# Altium footprint library BMS_Components.PcbLib: 13 footprints
Each footprint in its own frame and in the unit in brackets; x right, y up, seen from the top. Pads: shape width x height; smd on the part's side, far side on the other; paste and mask are expansions set on the pad; w line width, h text height; cw(c..) or ccw(c..) is an arc to the next point about the centre after c.
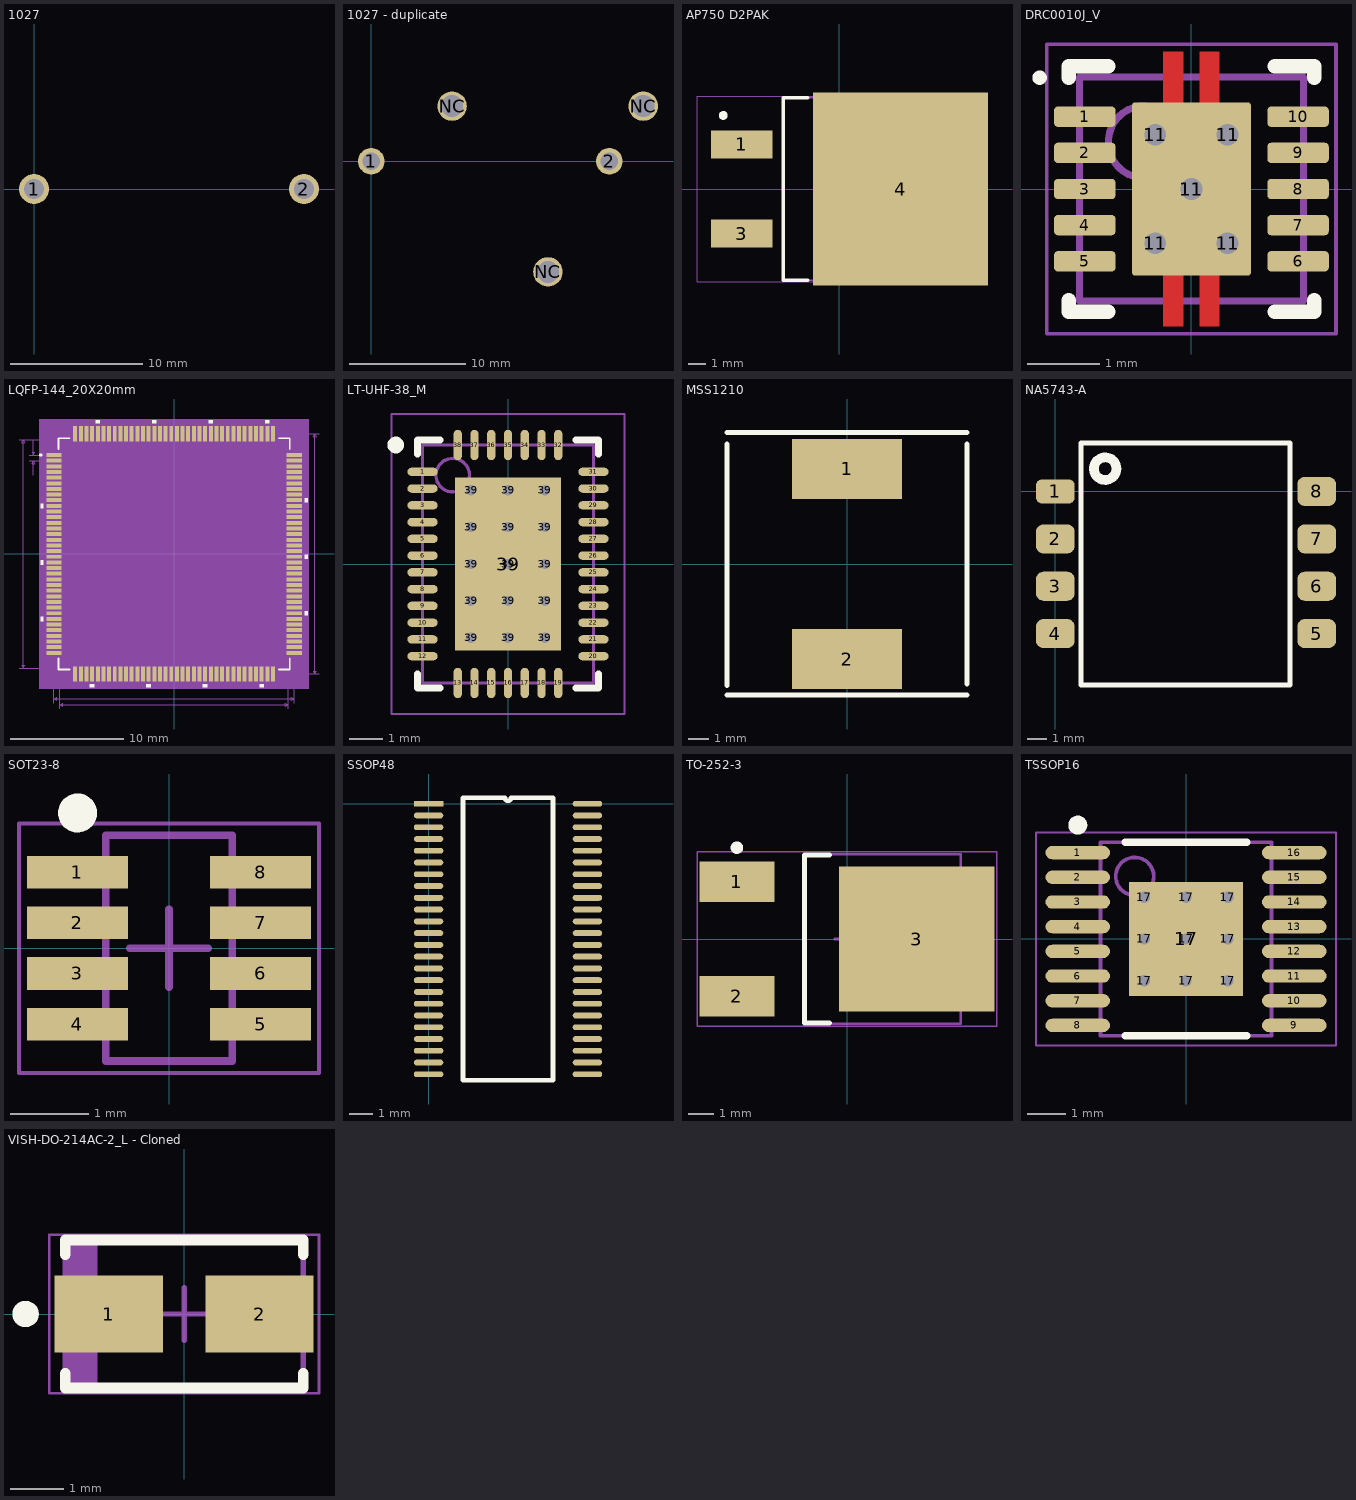
[diagram p0: the footprints below, top view; thin cyan lines are the x and y axes]

## 1027 [mil] "Keystone Cell holder, 23mm diameter"
pads (2):
  round 90 hole 60: 1(0,0) 2(807,0)
3D body "keystone-PN1027.STEP": height 451.88, standoff -179, extent -72.5,-546.46 1146.5,546.44

## 1027 - duplicate [mil] "Keystone Cell holder, 23mm diameter"
pads (5):
  round 90 hole 60: 1(0,0) 2(807,0)
  round 100 hole 75: NC(274,187) NC(599,-375) NC(922,187)
3D body "keystone-PN1027.STEP": height 451.88, standoff -179, extent -72.5,-546.46 1146.5,546.44

## AP750 D2PAK [mm] "D2-PAK for AP750 Resistor"
height 4.6
pads (3):
  rect 3.5x1.6 smd: 1(-5.55,2.54) 3(-5.55,-2.54)
  rect 10x11 smd: 4(3.5,0)
Top Overlay:
  circle w0.25: c-6.604,4.191 r0.125
  lines w0.2: -1.778,-5.2 -3.175,-5.2 -3.175,5.2 -1.778,5.2
Mechanical 13:
  lines w0.1: -3.175,-5.2 6.35,-5.2 6.35,5.207 -3.175,5.207 -3.175,-5.2
Mechanical 15:
  lines w0.05: -8.1,-5.3 8.1,-5.3 8.1,5.3 -8.1,5.3 -8.1,-5.3
  lines w0.1: -0.5,0 0.5,0 ; 0,-0.5 0,0.5
3D body: height 4.6, standoff 0, extent -3,-5.2 6.35,5.2

## DRC0010J_V [mm] "SON, 10-Leads, Body 3x3mm, Pitch 0.5mm, Thermal Pad 2.4x1.65mm, TI Recommended"
height 1
pads (16):
  rrect36% 0.85x0.28 smd paste-0.025 mask+0.07: 1(-1.475,1) 2(-1.475,0.5) 3(-1.475,0) 4(-1.475,-0.5) 5(-1.475,-1) 6(1.475,-1) 7(1.475,-0.5) 8(1.475,0) 9(1.475,0.5) 10(1.475,1)
  round 0.5 hole 0.3: 11(-0.5,-0.75) 11(-0.5,0.75) 11(0,0) 11(0.5,-0.75) 11(0.5,0.75)
  rrect6% 1.65x2.4 smd paste-0.825 mask+0.07: 11(0,0)
Top Layer:
  rectangle: -0.39,1.041 -0.11,1.9
  region: 0.39,1.9 0.11,1.9 0.11,1.067 0.39,1.067
  region: 0.39,-1.067 0.11,-1.067 0.11,-1.9 0.39,-1.9
  rectangle: -0.39,-1.9 -0.11,-1.016
Top Overlay:
  circle w0.1: c-2.1,1.54 r0.05
  lines w0.2: -1.7,-1.54 -1.7,-1.7 -1.15,-1.7 ; -1.7,1.54 -1.7,1.7 -1.15,1.7 ; 1.15,-1.7 1.7,-1.7 1.7,-1.54 ; 1.15,1.7 1.7,1.7 1.7,1.54
Top Paste:
  rectangle: -0.79,0.11 -0.11,1.16
  rectangle: -0.38,1.38 -0.12,1.88
  region: 0.38,1.88 0.12,1.88 0.12,1.38 0.38,1.38
  region: 0.38,-1.38 0.12,-1.38 0.12,-1.88 0.38,-1.88
  rectangle: -0.38,-1.88 -0.12,-1.38
  region: 0.79,1.16 0.11,1.16 0.11,0.11 0.79,0.11
  region: 0.79,-0.11 0.11,-0.11 0.11,-1.16 0.79,-1.16
  rectangle: -0.79,-1.16 -0.11,-0.11
Mechanical 1:
  text ".Designator" at -1.397,-1.016 h0.76
Mechanical 13:
  circle w0.1: c-0.65,0.65 r0.5
  lines w0.1: -1.55,-1.55 -1.55,1.55 1.55,1.55 1.55,-1.55 -1.55,-1.55
Mechanical 15:
  lines w0.05: -2,-2 -2,2 2,2 2,-2 -2,-2
3D body: height 1, standoff 0, extent -1.55,-1.55 1.55,1.55

## LQFP-144_20X20mm [mm]
pads (144):
  rect 1.35x0.35 smd paste+0 mask+0: 1(-10.625,8.75) 2(-10.625,8.25) 3(-10.625,7.75) 4(-10.625,7.25) 5(-10.625,6.75) 6(-10.625,6.25) 7(-10.625,5.75) 8(-10.625,5.25) 9(-10.625,4.75) 10(-10.625,4.25) 11(-10.625,3.75) 12(-10.625,3.25) 13(-10.625,2.75) 14(-10.625,2.25) 15(-10.625,1.75) 16(-10.625,1.25) 17(-10.625,0.75) 18(-10.625,0.25) 19(-10.625,-0.25) 20(-10.625,-0.75) 21(-10.625,-1.25) 22(-10.625,-1.75) 23(-10.625,-2.25) 24(-10.625,-2.75) 25(-10.625,-3.25) 26(-10.625,-3.75) 27(-10.625,-4.25) 28(-10.625,-4.75) 29(-10.625,-5.25) 30(-10.625,-5.75) 31(-10.625,-6.25) 32(-10.625,-6.75) 33(-10.625,-7.25) 34(-10.625,-7.75) 35(-10.625,-8.25) 36(-10.625,-8.75) 73(10.625,-8.75) 74(10.625,-8.25) 75(10.625,-7.75) 76(10.625,-7.25) 77(10.625,-6.75) 78(10.625,-6.25) 79(10.625,-5.75) 80(10.625,-5.25) 81(10.625,-4.75) 82(10.625,-4.25) 83(10.625,-3.75) 84(10.625,-3.25) 85(10.625,-2.75) 86(10.625,-2.25) 87(10.625,-1.75) 88(10.625,-1.25) 89(10.625,-0.75) 90(10.625,-0.25) 91(10.625,0.25) 92(10.625,0.75) 93(10.625,1.25) 94(10.625,1.75) 95(10.625,2.25) 96(10.625,2.75) 97(10.625,3.25) 98(10.625,3.75) 99(10.625,4.25) 100(10.625,4.75) 101(10.625,5.25) 102(10.625,5.75) 103(10.625,6.25) 104(10.625,6.75) 105(10.625,7.25) 106(10.625,7.75) 107(10.625,8.25) 108(10.625,8.75)
  rect 0.35x1.35 smd paste+0 mask+0: 37(-8.75,-10.625) 38(-8.25,-10.625) 39(-7.75,-10.625) 40(-7.25,-10.625) 41(-6.75,-10.625) 42(-6.25,-10.625) 43(-5.75,-10.625) 44(-5.25,-10.625) 45(-4.75,-10.625) 46(-4.25,-10.625) 47(-3.75,-10.625) 48(-3.25,-10.625) 49(-2.75,-10.625) 50(-2.25,-10.625) 51(-1.75,-10.625) 52(-1.25,-10.625) 53(-0.75,-10.625) 54(-0.25,-10.625) 55(0.25,-10.625) 56(0.75,-10.625) 57(1.25,-10.625) 58(1.75,-10.625) 59(2.25,-10.625) 60(2.75,-10.625) 61(3.25,-10.625) 62(3.75,-10.625) 63(4.25,-10.625) 64(4.75,-10.625) 65(5.25,-10.625) 66(5.75,-10.625) 67(6.25,-10.625) 68(6.75,-10.625) 69(7.25,-10.625) 70(7.75,-10.625) 71(8.25,-10.625) 72(8.75,-10.625) 109(8.75,10.625) 110(8.25,10.625) 111(7.75,10.625) 112(7.25,10.625) 113(6.75,10.625) 114(6.25,10.625) 115(5.75,10.625) 116(5.25,10.625) 117(4.75,10.625) 118(4.25,10.625) 119(3.75,10.625) 120(3.25,10.625) 121(2.75,10.625) 122(2.25,10.625) 123(1.75,10.625) 124(1.25,10.625) 125(0.75,10.625) 126(0.25,10.625) 127(-0.25,10.625) 128(-0.75,10.625) 129(-1.25,10.625) 130(-1.75,10.625) 131(-2.25,10.625) 132(-2.75,10.625) 133(-3.25,10.625) 134(-3.75,10.625) 135(-4.25,10.625) 136(-4.75,10.625) 137(-5.25,10.625) 138(-5.75,10.625) 139(-6.25,10.625) 140(-6.75,10.625) 141(-7.25,10.625) 142(-7.75,10.625) 143(-8.25,10.625) 144(-8.75,10.625)
Top Overlay:
  circle w0.152: c-11.804,8.75 r0.076
  region: -6.559,11.554 -6.94,11.554 -6.94,11.808 -6.559,11.808
  region: -1.559,11.554 -1.94,11.554 -1.94,11.808 -1.559,11.808
  region: 3.441,11.554 3.06,11.554 3.06,11.808 3.441,11.808
  region: 8.441,11.554 8.06,11.554 8.06,11.808 8.441,11.808
  region: 11.554,4.941 11.808,4.941 11.808,4.56 11.554,4.56
  region: 11.554,-0.059 11.808,-0.059 11.808,-0.44 11.554,-0.44
  region: 11.554,-5.059 11.808,-5.059 11.808,-5.44 11.554,-5.44
  region: 7.94,-11.554 7.559,-11.554 7.559,-11.808 7.94,-11.808
  region: 2.94,-11.554 2.559,-11.554 2.559,-11.808 2.94,-11.808
  region: -2.06,-11.554 -2.441,-11.554 -2.441,-11.808 -2.06,-11.808
  region: -7.06,-11.554 -7.441,-11.554 -7.441,-11.808 -7.06,-11.808
  region: -11.554,-5.56 -11.808,-5.56 -11.808,-5.941 -11.554,-5.941
  region: -11.554,-0.56 -11.808,-0.56 -11.808,-0.941 -11.554,-0.941
  region: -11.554,4.44 -11.808,4.44 -11.808,4.059 -11.554,4.059
  lines w0.152: -10.227,-9.258 -10.227,-10.227 -9.258,-10.227 ; -10.227,9.258 -10.227,10.227 -9.258,10.227 ; 9.258,-10.227 10.227,-10.227 10.227,-9.258 ; 9.258,10.227 10.227,10.227 10.227,9.258
Mechanical 5:
  region: 11.935,-11.935 -11.935,-11.935 -11.935,11.935 11.935,11.935
Mechanical 7:
  lines w0.025: -13.721,-10.1 -8.75,-10.1 ; -13.721,10.1 -8.75,10.1 ; -12.824,8.25 -10.625,8.25 ; -12.824,8.75 -10.625,8.75 ; -12.443,6.98 -12.443,8.25 ; -12.443,10.02 -12.443,8.75 ; -10.625,-13.205 -10.625,-8.4 ; -10.1,-13.721 -10.1,-8.75 ; 9.1,-10.625 12.824,-10.625 ; 9.1,10.625 12.824,10.625 ; 10.1,-13.721 10.1,-8.75 ; 10.625,-13.205 10.625,-8.4 ; -13.34,-10.1 -13.213,-9.846 -13.467,-9.846 -13.34,-10.1 ; -13.34,-10.1 -13.34,10.1 ; -13.34,10.1 -13.213,9.846 -13.467,9.846 -13.34,10.1 ; -12.443,8.25 -12.316,7.996 -12.57,7.996 -12.443,8.25 ; -12.443,8.75 -12.316,9.004 -12.57,9.004 -12.443,8.75 ; -10.625,-12.824 -10.371,-12.951 -10.371,-12.697 -10.625,-12.824 ; -10.625,-12.824 10.625,-12.824 ; -10.1,-13.34 -9.846,-13.467 -9.846,-13.213 -10.1,-13.34 ; -10.1,-13.34 10.1,-13.34 ; 10.1,-13.34 9.846,-13.467 9.846,-13.213 10.1,-13.34 ; 10.625,-12.824 10.371,-12.951 10.371,-12.697 10.625,-12.824 ; 12.443,-10.625 12.57,-10.371 12.316,-10.371 12.443,-10.625 ; 12.443,-10.625 12.443,10.625 ; 12.443,10.625 12.57,10.371 12.316,10.371 12.443,10.625
  text "0.795in/20.2mm" at -18.293,-0.318 h0.64
  text "0.795in/20.2mm" at -2.222,-14.483 h0.64
  text "0.837in/21.25mm" at -2.381,-13.967 h0.64
  text "0.837in/21.25mm" at 12.951,-0.318 h0.64
  text "0.02in/0.5mm" at -16.761,8.183 h0.64
  text "Alt 2 Padstyle: OX90Y60D30P" at -8.572,-24 h1.27
  text "Alt 1 Padstyle: OX60Y90D30P" at -8.572,-22.476 h1.27
  text "Default Padstyle: RX53p15Y13p78D0T" at -10.795,-17.904 h1.27
Mechanical 13:
  circle w0: c-9.315,8.75 r0.076
  lines w0.025: -10.1,8.83 -8.83,10.1 ; -10.1,-10.1 -10.1,10.1 10.1,10.1 10.1,-10.1 -10.1,-10.1
Mechanical 15:
  region: -9.258,-10.354 -10.354,-10.354 -10.354,-9.258 -11.808,-9.258 -11.808,9.258 -10.354,9.258 -10.354,10.354 -9.258,10.354 -9.258,11.808 9.258,11.808 9.258,10.354 10.354,10.354 10.354,9.258 11.808,9.258 11.808,-9.258 10.354,-9.258 10.354,-10.354 9.258,-10.354 9.258,-11.808 -9.258,-11.808
  lines w0.152: -11.808,-9.258 -11.808,9.258 -10.354,9.258 -10.354,10.354 -9.258,10.354 -9.258,11.808 9.258,11.808 9.258,10.354 10.354,10.354 10.354,9.258 11.808,9.258 11.808,-9.258 10.354,-9.258 10.354,-10.354 9.258,-10.354 9.258,-11.808 -9.258,-11.808 -9.258,-10.354 -10.354,-10.354 -10.354,-9.258 -11.808,-9.258
3D body: height 0.25, standoff 0, extent 0,0 0.254,0.254

## LT-UHF-38_M [mm] "QFN, 38-Leads, Body 7.1x5.1mm, Pitch 0.5mm, Thermal Pad 3.15x5.15mm, IPC Low Density"
height 0.8
pads (54):
  oval 0.9x0.25 smd: 1(-2.55,2.75) 2(-2.55,2.25) 3(-2.55,1.75) 4(-2.55,1.25) 5(-2.55,0.75) 6(-2.55,0.25) 7(-2.55,-0.25) 8(-2.55,-0.75) 9(-2.55,-1.25) 10(-2.55,-1.75) 11(-2.55,-2.25) 12(-2.55,-2.75) 20(2.55,-2.75) 21(2.55,-2.25) 22(2.55,-1.75) 23(2.55,-1.25) 24(2.55,-0.75) 25(2.55,-0.25) 26(2.55,0.25) 27(2.55,0.75) 28(2.55,1.25) 29(2.55,1.75) 30(2.55,2.25) 31(2.55,2.75)
  oval 0.25x0.9 smd: 13(-1.5,-3.55) 14(-1,-3.55) 15(-0.5,-3.55) 16(0,-3.55) 17(0.5,-3.55) 18(1,-3.55) 19(1.5,-3.55) 32(1.5,3.55) 33(1,3.55) 34(0.5,3.55) 35(0,3.55) 36(-0.5,3.55) 37(-1,3.55) 38(-1.5,3.55)
  round 0.5 hole 0.3: 39(-1.1,-2.2) 39(-1.1,-1.1) 39(-1.1,0) 39(-1.1,1.1) 39(-1.1,2.2) 39(0,-2.2) 39(0,-1.1) 39(0,0) 39(0,1.1) 39(0,2.2) 39(1.1,-2.2) 39(1.1,-1.1) 39(1.1,0) 39(1.1,1.1) 39(1.1,2.2)
  rect 3.15x5.15 smd: 39(0,0)
Top Overlay:
  circle w0.25: c-3.35,3.55 r0.125
  lines w0.2: -2.7,-3.275 -2.7,-3.7 -2.025,-3.7 ; -2.7,3.275 -2.7,3.7 -2.025,3.7 ; 2.025,-3.7 2.7,-3.7 2.7,-3.275 ; 2.025,3.7 2.7,3.7 2.7,3.275
Mechanical 13:
  circle w0.1: c-1.65,2.65 r0.5
  lines w0.1: -2.55,-3.55 -2.55,3.55 2.55,3.55 2.55,-3.55 -2.55,-3.55
Mechanical 15:
  lines w0.05: -3.475,-4.475 -3.475,4.475 3.475,4.475 3.475,-4.475 -3.475,-4.475
  lines w0.1: -0.5,0 0.5,0 ; 0,-0.5 0,0.5
3D body: height 0.8, standoff 0, extent -2.55,-3.55 2.55,3.55

## MSS1210 [mm] "Coilcraft inductor"
height 10
pads (2):
  rect 5.5x3 smd: 1(0,4.75) 2(0,-4.75)
Top Overlay:
  lines w0.254: -6,-6.548 6,-6.548 ; -6,-6.076 -6,6 ; -6,6.584 6,6.584 ; 6,-6 6,6
3D body "Coilcraft-MSS1210.step": height 10.16, standoff -0.04, extent -6.156,-6.22 6.144,6.08

## NA5743-A [mil] "Flyback Transformer"
height 450
pads (8):
  rrect50% 80x50 smd: 1(0,0)
  rrect50% 80x60 smd: 2(0,-98) 3(0,-196) 4(0,-294) 5(540,-294) 6(540,-196) 7(540,-98) 8(540,0)
Top Overlay:
  circle w20: c103,47 r23.35
  lines w10: 53,-400 53,100 485,100 485,94 485,-400 53,-400
3D body "Coilcraft-NA5743-AL.STEP": height 423.23, standoff -9.84, extent -29,-396 571,104
3D body: height 10, standoff 0, extent -9,13 -9,13

## SOT23-8 [mm] "SOT23, 8-Leads, Body 2.9x1.625mm, Pitch 0.65 mm"
height 1.45
pads (8):
  rect 1.3x0.42 smd: 1(-1.175,0.975) 2(-1.175,0.325) 3(-1.175,-0.325) 4(-1.175,-0.975) 5(1.175,-0.975) 6(1.175,-0.325) 7(1.175,0.325) 8(1.175,0.975)
Top Overlay:
  circle w0.25: c-1.175,1.735 r0.125
Mechanical 13:
  lines w0.1: -0.812,-1.45 -0.812,1.45 0.813,1.45 0.813,-1.45 -0.812,-1.45
Mechanical 15:
  lines w0.05: -1.925,-1.6 -1.925,1.6 1.925,1.6 1.925,-1.6 -1.925,-1.6
  lines w0.1: -0.5,0 0.5,0 ; 0,-0.5 0,0.5
3D body: height 1.45, standoff 0, extent -0.812,-1.45 0.813,1.45

## SSOP48 [mm]
pads (48):
  rect 1.25x0.25 smd: 1(0,0)
  oval 1.25x0.25 smd: 2(0,-0.5) 3(0,-1) 4(0,-1.5) 5(0,-2) 6(0,-2.5) 7(0,-3) 8(0,-3.5) 9(0,-4) 10(0,-4.5) 11(0,-5) 12(0,-5.5) 13(0,-6) 14(0,-6.5) 15(0,-7) 16(0,-7.5) 17(0,-8) 18(0,-8.5) 19(0,-9) 20(0,-9.5) 21(0,-10) 22(0,-10.5) 23(0,-11) 24(0,-11.5) 25(6.75,-11.5) 26(6.75,-11) 27(6.75,-10.5) 28(6.75,-10) 29(6.75,-9.5) 30(6.75,-9) 31(6.75,-8.5) 32(6.75,-8) 33(6.75,-7.5) 34(6.75,-7) 35(6.75,-6.5) 36(6.75,-6) 37(6.75,-5.5) 38(6.75,-5) 39(6.75,-4.5) 40(6.75,-4) 41(6.75,-3.5) 42(6.75,-3) 43(6.75,-2.5) 44(6.75,-2) 45(6.75,-1.5) 46(6.75,-1) 47(6.75,-0.5) 48(6.75,0)
Top Overlay:
  lines w0.2: 1.46,-11.75 1.46,0.25 3.25,0.25 ccw(c3.375,0.25) 3.5,0.25 5.29,0.25 5.29,-11.75 1.46,-11.75

## TO-252-3 [mm] "DPAK, 3-Leads, Body 6.75x6.22mm"
height 2.38
pads (3):
  rect 3x1.6 smd: 1(-4.4,2.285) 2(-4.4,-2.285)
  rect 6.2x5.8 smd: 3(2.78,0)
Top Overlay:
  circle w0.25: c-4.4,3.64 r0.125
  lines w0.2: -0.7,-3.35 -1.7,-3.35 -1.7,3.35 -0.7,3.35
Mechanical 13:
  lines w0.1: -1.7,-3.375 -1.7,3.375 4.52,3.375 4.52,-3.375 -1.7,-3.375
Mechanical 15:
  lines w0.05: -5.99,-3.475 -5.99,3.475 5.97,3.475 5.97,-3.475 -5.99,-3.475
  lines w0.1: -0.5,0 0.5,0 ; 0,-0.5 0,0.5
3D body "DPAK229P991X238-3L.step": height 2.38, standoff 0, extent -4.211,-3.375 5.694,3.375

## TSSOP16 [mm] "TSSOP, 16-Leads, Body 5.1x4.5mm, Pitch 0.65mm, Thermal Pad 2.997x2.997mm, IPC Medium Density"
height 1.2
pads (26):
  oval 1.7x0.35 smd: 1(-2.85,2.275) 2(-2.85,1.625) 3(-2.85,0.975) 4(-2.85,0.325) 5(-2.85,-0.325) 6(-2.85,-0.975) 7(-2.85,-1.625) 8(-2.85,-2.275) 9(2.85,-2.275) 10(2.85,-1.625) 11(2.85,-0.975) 12(2.85,-0.325) 13(2.85,0.325) 14(2.85,0.975) 15(2.85,1.625) 16(2.85,2.275)
  round 0.5 hole 0.3: 17(-1.1,-1.1) 17(-1.1,0) 17(-1.1,1.1) 17(0,-1.1) 17(0,0) 17(0,1.1) 17(1.1,-1.1) 17(1.1,0) 17(1.1,1.1)
  rect 3x3 smd: 17(0,0)
Top Overlay:
  circle w0.25: c-2.85,3 r0.125
  lines w0.2: -1.6,-2.55 1.6,-2.55 ; -1.6,2.55 1.6,2.55
Mechanical 13:
  circle w0.1: c-1.35,1.65 r0.5
  lines w0.1: -2.25,-2.55 2.25,-2.55 2.25,2.55 -2.25,2.55 -2.25,-2.55
Mechanical 15:
  lines w0.05: -3.95,-2.8 3.95,-2.8 3.95,2.8 -3.95,2.8 -3.95,-2.8
  lines w0.1: -0.5,0 0.5,0 ; 0,-0.5 0,0.5
3D body: height 1.2, standoff 0.03, extent -2.25,-2.55 2.25,2.55

## VISH-DO-214AC-2_L - Cloned [mm] "DO-214AC, 2-Leads, Body 4.5x2.79mm, IPC High Density"
height 2.29
pads (2):
  rect 2.05x1.45 smd: 1(-1.425,0) 2(1.425,0)
Top Overlay:
  circle w0.25: c-3,0 r0.125
  lines w0.2: -2.25,-1.125 -2.25,-1.4 2.25,-1.4 2.25,-1.125 ; -2.25,1.125 -2.25,1.4 2.25,1.4 2.25,1.125
Mechanical 13:
  rectangle: -2.25,-1.395 -1.645,1.395
  lines w0.1: -2.25,-1.395 -2.25,1.395 2.25,1.395 2.25,-1.395 -2.25,-1.395
Mechanical 15:
  lines w0.05: -2.55,-1.5 -2.55,1.5 2.55,1.5 2.55,-1.5 -2.55,-1.5
  lines w0.1: -0.5,0 0.5,0 ; 0,-0.5 0,0.5
3D body: height 2.29, standoff 0, extent -2.25,-1.395 2.25,1.395